# EAGLE library part TPS22922YFPR (library TPS22922YFPR)
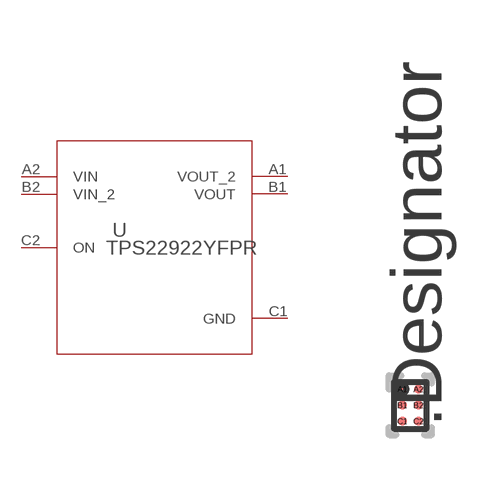
[diagram p0: symbol with the pads of YFP0006AAAA; footprint YFP0006AAAA]

Designator prefix U

## TPS22922YFPR (COMPTYPE: IC; MANUFACTURER: Texas Instruments; MOUNTTYPE: SMT; PACKAGEREFERENCE: YFP0006AAAA; PARTNUMBER: TPS22922YFP; PIN_COUNT: 6; REFDES: RefDes; ROHS: Y; TYPE: TYPE; VALUE: Value)  [YFP0006AAAA]
A1  VOUT_2  out
A2  VIN  in
B1  VOUT  out
B2  VIN_2  in
C1  GND  pwr
C2  ON  in

## Footprint YFP0006AAAA (pad centres in mm)
smd 0.229 x 0.229: A1 -0.2,0.4; A2 0.2,0.4; B1 -0.2,0; B2 0.2,0; C1 -0.2,-0.4; C2 0.2,-0.4